# Altium schematic symbol library IRLR8726PBF.Schlib: 1 symbol
Pins are listed as number, name and electrical type; pins without a type are passive.

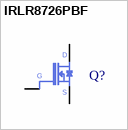
[diagram p0: symbol IRLR8726PBF]

## IRLR8726PBF
designator Q?  (value not drawn)
pins: 1 G, 3 S, 4 D